# Altium schematic symbol library 3220-20-0200-00.SchLib: 1 symbol
Pins are listed as number, name and electrical type; pins without a type are passive.

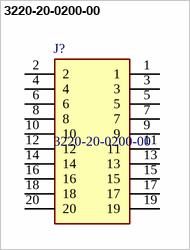
[diagram p0: symbol 3220-20-0200-00]

## 3220-20-0200-00
designator J?
Connector Header Through Hole, Right Angle 20 position 0.050" (1.27mm); Manufacturer_Name: CNC Tech; Geometry.Height: 5.35mm; Arrow Part Number: 3220-20-0200-00; Arrow Price/Stock: https://www.arrow.com/en/products/3220-20-0200-00/cnc-tech-llc?region=nac; Manufacturer_Part_Number: 3220-20-0200-00; Datasheet Link: https://www.arrow.com/en/products/3220-20-0200-00/cnc-tech-llc?region=nac
footprint 322020020000
pins: 1, 2, 3, 4, 5, 6, 7, 8, 9, 10, 11, 12, 13, 14, 15, 16, 17, 18, 19, 20